# Altium footprint library 74HC MuX.PcbLib: 1 footprints
Each footprint in its own frame and in the unit in brackets; x right, y up, seen from the top. Pads: shape width x height; smd on the part's side, far side on the other; paste and mask are expansions set on the pad; w line width, h text height; cw(c..) or ccw(c..) is an arc to the next point about the centre after c.
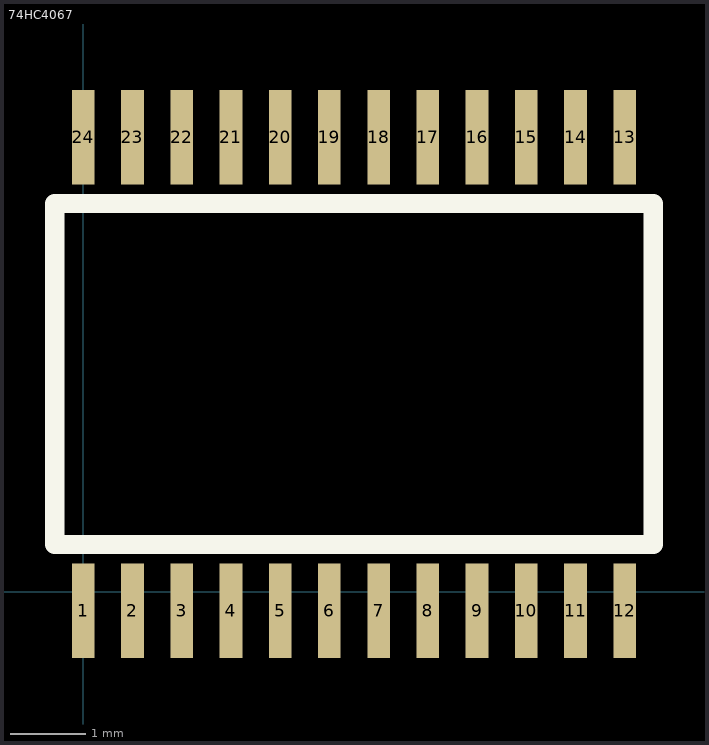
[diagram p0: the footprint, top view; thin cyan lines are the x and y axes]

## 74HC4067 [mm]
pads (24):
  rect 0.3x1.25 smd: 1(0,-0.25) 2(0.65,-0.25) 3(1.3,-0.25) 4(1.95,-0.25) 5(2.6,-0.25) 6(3.25,-0.25) 7(3.9,-0.25) 8(4.55,-0.25) 9(5.2,-0.25) 10(5.85,-0.25) 11(6.5,-0.25) 12(7.15,-0.25) 13(7.15,6) 14(6.5,6) 15(5.85,6) 16(5.2,6) 17(4.55,6) 18(3.9,6) 19(3.25,6) 20(2.6,6) 21(1.95,6) 22(1.3,6) 23(0.65,6) 24(0,6)
Top Overlay:
  lines w0.254: -0.375,0.625 -0.375,5.125 7.525,5.125 7.525,0.625 -0.375,0.625